# Altium footprint library TE_5-103639-3.PcbLib: 1 footprints
Each footprint in its own frame and in the unit in brackets; x right, y up, seen from the top. Pads: shape width x height; smd on the part's side, far side on the other; paste and mask are expansions set on the pad; w line width, h text height; cw(c..) or ccw(c..) is an arc to the next point about the centre after c.
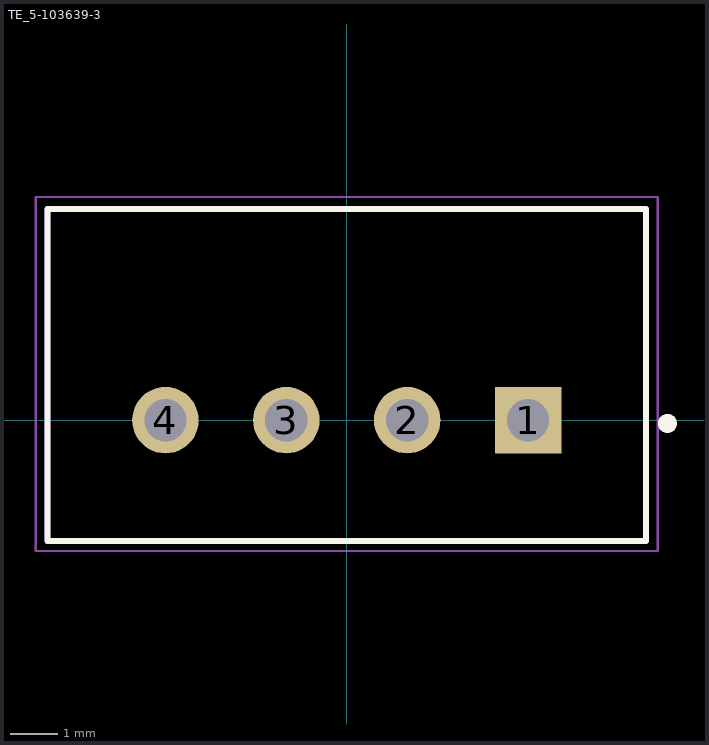
[diagram p0: the footprint, top view; thin cyan lines are the x and y axes]

## TE_5-103639-3 [mm]
pads (4):
  rect 1.398x1.398 / inner round 1.398 / far side rect 1.398x1.398 hole 0.89 mask+0.102: 1(3.81,0)
  round 1.398 hole 0.89 mask+0.102: 2(1.27,0) 3(-1.27,0) 4(-3.81,0)
Top Overlay:
  circle w0.2: c6.739,-0.069 r0.1
  lines w0.127: -6.285,-2.54 -6.285,4.44 6.285,4.44 6.285,-2.54 -6.285,-2.54
Assembly Top:
  lines w0.127: -6.285,-2.54 -6.285,4.44 6.285,4.44 6.285,-2.54 -6.285,-2.54
Courtyard Top:
  lines w0.05: -6.535,-2.75 -6.535,4.69 6.535,4.69 6.535,-2.75 -6.535,-2.75
3D body "step_temp.STEP": height 4.06, standoff -2.54, extent -6.285,0 6.285,16.89